# Altium integrated library DSPIC33FJ12GP201-E_P.IntLib: 1 symbol
Pins are listed as number, name and electrical type; pins without a type are passive.

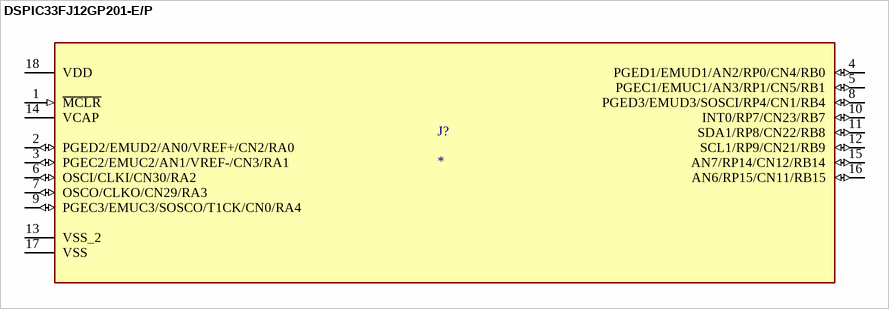
[diagram p0: symbol DSPIC33FJ12GP201-E/P]

## DSPIC33FJ12GP201-E/P
designator J?
16-bit Digital Signal Controllers; MP: DSPIC33FJ12GP201-E/P; Package: None; Price: None; Value: *; Availability: Unavailable
footprint DIP254P762X533-18
pins: 1 ~{MCLR} (in), 2 PGED2/EMUD2/AN0/VREF+/CN2/RA0 (io), 3 PGEC2/EMUC2/AN1/VREF-/CN3/RA1 (io), 4 PGED1/EMUD1/AN2/RP0/CN4/RB0 (io), 5 PGEC1/EMUC1/AN3/RP1/CN5/RB1 (io), 6 OSCI/CLKI/CN30/RA2 (io), 7 OSCO/CLKO/CN29/RA3 (io), 8 PGED3/EMUD3/SOSCI/RP4/CN1/RB4 (io), 9 PGEC3/EMUC3/SOSCO/T1CK/CN0/RA4 (io), 10 INT0/RP7/CN23/RB7 (io), 11 SDA1/RP8/CN22/RB8 (io), 12 SCL1/RP9/CN21/RB9 (io), 13 VSS_2 (power), 14 VCAP (power), 15 AN7/RP14/CN12/RB14 (io), 16 AN6/RP15/CN11/RB15 (io), 17 VSS (power), 18 VDD (power)